# EAGLE library part BM1422AGMV (library lz-shield)
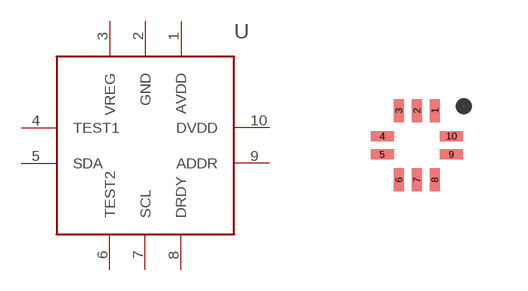
[diagram p13: symbol with the pads of BM1422AGMV; footprint BM1422AGMV]

Designator prefix -

## BM1422AGMV  [BM1422AGMV]
1  AVDD  pwr
2  GND  pwr
3  VREG  out
4  TEST1  nc
5  SDA
6  TEST2  nc
7  SCL  in
8  DRDY  out
9  ADDR  in
10  DVDD  pwr

## Footprint BM1422AGMV (pad centres in mm)
smd 0.25 x 0.58: 1 0.45,0.865; 2 0,0.865; 3 -0.45,0.865; 6 -0.45,-0.865; 7 0,-0.865; 8 0.45,-0.865
smd 0.58 x 0.25: 4 -0.865,0.23; 5 -0.865,-0.23; 9 0.865,-0.23; 10 0.865,0.23